# Altium schematic symbol library Shielded inductor.ShLib.SchLib: 1 symbol
Pins are listed as number, name and electrical type; pins without a type are passive.

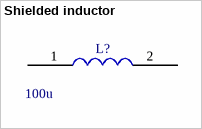
[diagram p0: symbol Shielded inductor]

## Shielded inductor
designator L?, comment value 100u  (hidden comment: IND)
Shielded Inductor 1050
footprint 1050
pins: 1 3, 2 4